# EAGLE library part MPU9250 (library CNTRL_BOARD)
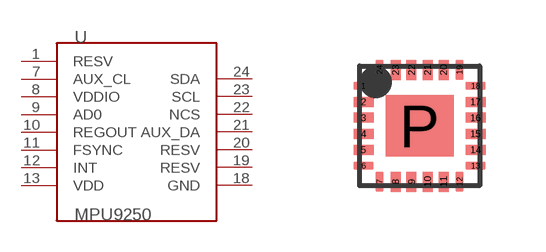
[diagram p11: symbol with the pads of QFN-24-3X3; footprint QFN-24-3X3]

Designator prefix -

## MPU9250  [QFN-24-3X3]
1  RESV
7  AUX_CL
8  VDDIO
9  AD0
10  REGOUT
11  FSYNC
12  INT
13  VDD
18  GND
19  RESV
20  RESV
21  AUX_DA
22  NCS
23  SCL
24  SDA

## Footprint QFN-24-3X3 (pad centres in mm)
smd 0.5 x 0.2: 1 -1.4,1; 6 -1.4,-1; 13 1.4,-1; 18 1.4,1
smd 0.5 x 0.25: 2 -1.4,0.6; 3 -1.4,0.2; 4 -1.4,-0.2; 5 -1.4,-0.6; 14 1.4,-0.6; 15 1.4,-0.2; 16 1.4,0.2; 17 1.4,0.6
smd 0.2 x 0.5: 7 -1,-1.4; 12 1,-1.4; 19 1,1.4; 24 -1,1.4
smd 0.25 x 0.5: 8 -0.6,-1.4; 9 -0.2,-1.4; 10 0.2,-1.4; 11 0.6,-1.4; 20 0.6,1.4; 21 0.2,1.4; 22 -0.2,1.4; 23 -0.6,1.4
smd 1.7 x 1.54: P 0,0